# Altium footprint library DCI_MB1137.PcbLib: 47 footprints (part 3 of 3)
Each footprint in its own frame and in the unit in brackets; x right, y up, seen from the top. Pads: shape width x height; smd on the part's side, far side on the other; paste and mask are expansions set on the pad; w line width, h text height; cw(c..) or ccw(c..) is an arc to the next point about the centre after c.
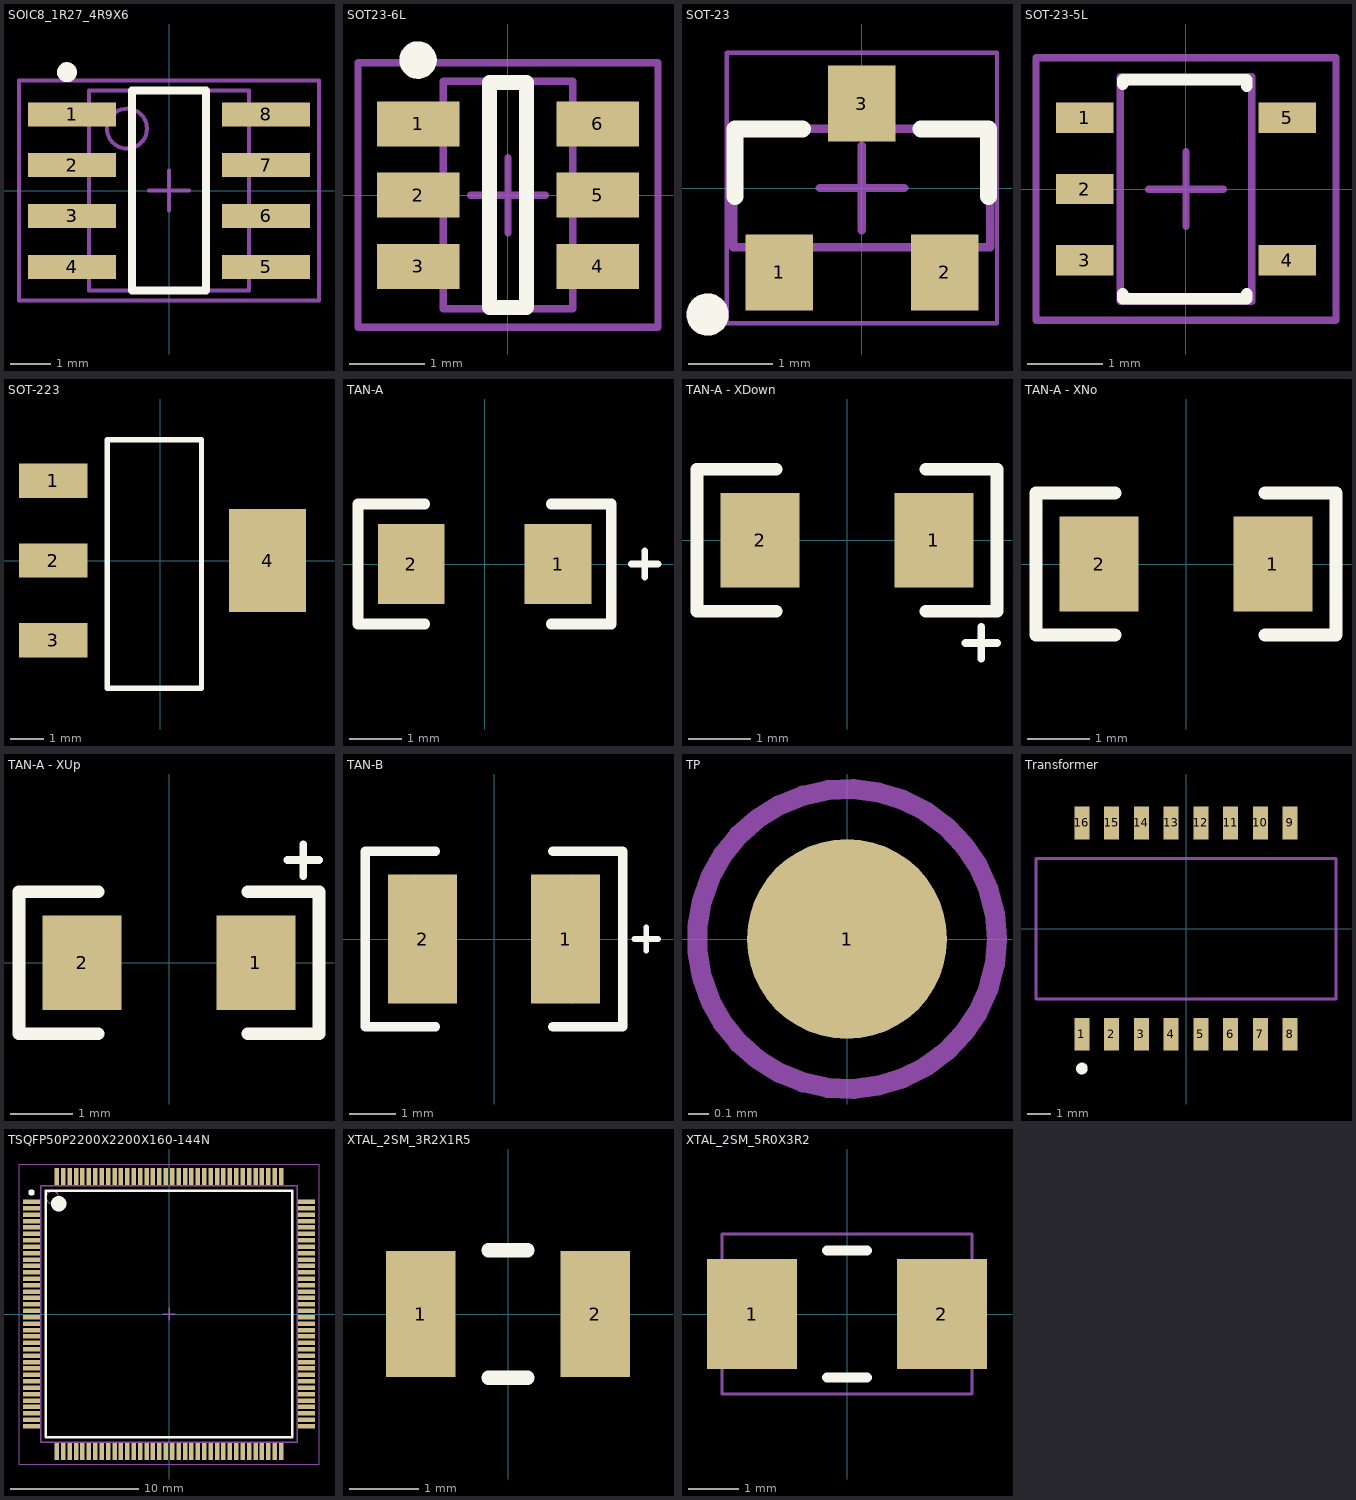
[diagram p2: the footprints below, top view; thin cyan lines are the x and y axes]

## SOIC8_1R27_4R9X6 [mm] "1.2 A current limited high-side power switch with thermal shutdown"
height 1.75
pads (8):
  rect 2.2x0.6 smd: 1(-2.425,1.905) 2(-2.425,0.635) 3(-2.425,-0.635) 4(-2.425,-1.905) 5(2.425,-1.905) 6(2.425,-0.635) 7(2.425,0.635) 8(2.425,1.905)
Top Overlay:
  circle w0.25: c-2.55,2.96 r0.125
  lines w0.2: -0.925,-2.5 -0.925,2.5 0.925,2.5 0.925,-2.5 -0.925,-2.5
Mechanical 13:
  circle w0.1: c-1.05,1.55 r0.5
  lines w0.1: -2,-2.5 -2,2.5 2,2.5 2,-2.5 -2,-2.5
Mechanical 15:
  lines w0.1: -0.5,0 0.5,0 ; 0,-0.5 0,0.5 ; -3.75,-2.75 -3.75,2.75 3.75,2.75 3.75,-2.75 -3.75,-2.75
3D body: height 1.45, standoff 0.1, extent -2,-2.5 2,2.5

## SOT23-6L [mm]
height 1.25
pads (6):
  rect 1.1x0.6 smd: 1(-1.2,0.95) 2(-1.2,0) 3(-1.2,-0.95) 4(1.2,-0.95) 5(1.2,0) 6(1.2,0.95)
Top Overlay:
  circle w0.25: c-1.2,1.8 r0.125
  lines w0.2: -0.25,-1.5 0.25,-1.5 0.25,1.5 -0.25,1.5 -0.25,-1.5
Mechanical 13:
  lines w0.1: -0.865,-1.515 -0.865,1.515 0.865,1.515 0.865,-1.515 -0.865,-1.515
Mechanical 15:
  lines w0.1: -0.5,0 0.5,0 ; 0,-0.5 0,0.5 ; -2,-1.763 -2,1.763 2,1.763 2,-1.763 -2,-1.763
3D body: height 1.25, standoff 0.05, extent -0.865,-1.515 0.865,1.515

## SOT-23 [mm]
height 1.1
pads (3):
  rect 0.8x0.9 smd: 1(-0.98,-1) 2(0.98,-1) 3(0,1)
Top Overlay:
  circle w0.25: c-1.827,-1.499 r0.125
  lines w0.2: -1.5,-0.1 -1.5,0.7 -0.7,0.7 ; 0.7,0.7 1.5,0.7 1.5,-0.1
Mechanical 13:
  lines w0.1: -1.52,-0.7 1.52,-0.7 1.52,0.7 -1.52,0.7 -1.52,-0.7
Mechanical 15:
  lines w0.05: -1.6,-1.6 1.6,-1.6 1.6,1.6 -1.6,1.6 -1.6,-1.6
  lines w0.1: -0.5,0 0.5,0 ; 0,-0.5 0,0.5
3D body: height 1.11, standoff 0.01, extent -1.52,-0.7 1.52,0.7

## SOT-23-5L [mil] "Enhanced single channel power switches"
height 57.09
pads (5):
  rect 30x16 smd: 1(-53.15,37.4) 2(-53.15,0) 3(-53.15,-37.4) 4(53.15,-37.4) 5(53.15,37.4)
Top Overlay:
  lines w6: -33.15,-55 -33.15,-57.6 31.85,-57.6 31.85,-55 ; -33.15,55 -33.15,57.4 31.85,57.4 31.85,54
Mechanical 13:
  lines w3.94: -34.45,-59.06 34.45,-59.06 34.45,59.06 -34.45,59.06 -34.45,-59.06
Mechanical 15:
  lines w3.94: -19.68,0 19.69,0 ; 0,-19.68 0,19.69 ; -78.74,-68.9 78.74,-68.9 78.74,68.9 -78.74,68.9 -78.74,-68.9
3D body: height 57.09, standoff 1.97, extent -34.45,-59.06 34.45,59.06

## SOT-223 [mil] "Adjustable and fixed low drop positive voltage regulator"
height 70.87
pads (4):
  rect 80x40 smd: 1(-125,93) 2(-125,0) 3(-125,-93)
  rect 90x120 smd: 4(125,0)
Top Overlay:
  lines w6: -62,-149 -62,141 48,141 48,-149 -62,-149
3D body: height 70.87, standoff 7.87, extent -83.66,-131.89 62.01,131.89

## TAN-A [mil] "TAN Capacitor"
height 39.37
pads (2):
  rect 50x60 smd: 1(55,0) 2(-55,0)
Top Overlay:
  lines w5: 110,0 130,0 ; 120,-10 120,10
  lines w8: -45,-45 -95,-45 -95,45 -45,45 ; 50,-45 95,-45 95,45 50,45
3D body: height 39.37, standoff 0, extent -47.24,-35.43 47.24,35.43

## TAN-A - XDown [mil] "TAN Capacitor"
height 39.37
pads (2):
  rect 50x60 smd: 1(55,0) 2(-55,0)
Top Overlay:
  lines w5: 75,-65 95,-65 ; 85,-75 85,-55
  lines w8: -45,-45 -95,-45 -95,45 -45,45 ; 50,-45 95,-45 95,45 50,45
3D body: height 39.37, standoff 0, extent -47.24,-35.43 47.24,35.43

## TAN-A - XNo [mil] "TAN Capacitor"
height 39.37
pads (2):
  rect 50x60 smd: 1(55,0) 2(-55,0)
Top Overlay:
  lines w8: -45,-45 -95,-45 -95,45 -45,45 ; 50,-45 95,-45 95,45 50,45
3D body: height 39.37, standoff 0, extent -47.24,-35.43 47.24,35.43

## TAN-A - XUp [mil] "TAN Capacitor"
height 39.37
pads (2):
  rect 50x60 smd: 1(55,0) 2(-55,0)
Top Overlay:
  lines w5: 75,65 95,65 ; 85,55 85,75
  lines w8: -45,-45 -95,-45 -95,45 -45,45 ; 50,-45 95,-45 95,45 50,45
3D body: height 39.37, standoff 0, extent -47.24,-35.43 47.24,35.43

## TAN-B [mm] "Tan Capacitor"
height 1
pads (2):
  rect 1.5x2.8 smd: 1(1.55,0) 2(-1.55,0)
Top Overlay:
  lines w0.127: 3.048,0 3.556,0 ; 3.302,-0.254 3.302,0.254
  lines w0.203: -1.27,-1.905 -2.794,-1.905 -2.794,1.905 -1.27,1.905 ; 1.27,-1.905 2.794,-1.905 2.794,1.905 1.27,1.905
Mechanical 13:
  lines w0.1: -1.7,-1.35 -1.7,1.35 ; 1.7,-1.35 1.7,1.35
3D body: height 1, standoff 0, extent -1.763,-1.537 1.704,1.539

## TP [mm] "Testpoint, Surface Mounting, Circular, Pad Diameter 1mm"
height 1
pads (1):
  round 1 smd: 1(0,0)
Mechanical 15:
  circle w0.1: c0,0 r0.75

## Transformer [mm]
height 1
pads (16):
  rect 0.64x1.4 smd: 1(-4.445,-4.51) 2(-3.175,-4.51) 3(-1.905,-4.51) 4(-0.635,-4.51) 5(0.635,-4.51) 6(1.905,-4.51) 7(3.175,-4.51) 8(4.445,-4.51) 9(4.445,4.51) 10(3.175,4.51) 11(1.905,4.51) 12(0.635,4.51) 13(-0.635,4.51) 14(-1.905,4.51) 15(-3.175,4.51) 16(-4.445,4.51)
Top Overlay:
  circle w0.25: c-4.443,-5.969 r0.125
Mechanical 13:
  lines w0.127: -6.4,-3 6.4,-3 6.4,3 -6.4,3 -6.4,-3
3D body: height 6, standoff 0, extent -6.4,-3 6.4,3

## TSQFP50P2200X2200X160-144N [mm] "TSQFP, 144-Leads, Body 20.00x20.00mm, Pitch 0.50mm, IPC Medium Density"
height 1.6
pads (144):
  rect 1.35x0.35 smd: 1(-10.725,8.75) 2(-10.725,8.25) 3(-10.725,7.75) 4(-10.725,7.25) 5(-10.725,6.75) 6(-10.725,6.25) 7(-10.725,5.75) 8(-10.725,5.25) 9(-10.725,4.75) 10(-10.725,4.25) 11(-10.725,3.75) 12(-10.725,3.25) 13(-10.725,2.75) 14(-10.725,2.25) 15(-10.725,1.75) 16(-10.725,1.25) 17(-10.725,0.75) 18(-10.725,0.25) 19(-10.725,-0.25) 20(-10.725,-0.75) 21(-10.725,-1.25) 22(-10.725,-1.75) 23(-10.725,-2.25) 24(-10.725,-2.75) 25(-10.725,-3.25) 26(-10.725,-3.75) 27(-10.725,-4.25) 28(-10.725,-4.75) 29(-10.725,-5.25) 30(-10.725,-5.75) 31(-10.725,-6.25) 32(-10.725,-6.75) 33(-10.725,-7.25) 34(-10.725,-7.75) 35(-10.725,-8.25) 36(-10.725,-8.75) 73(10.725,-8.75) 74(10.725,-8.25) 75(10.725,-7.75) 76(10.725,-7.25) 77(10.725,-6.75) 78(10.725,-6.25) 79(10.725,-5.75) 80(10.725,-5.25) 81(10.725,-4.75) 82(10.725,-4.25) 83(10.725,-3.75) 84(10.725,-3.25) 85(10.725,-2.75) 86(10.725,-2.25) 87(10.725,-1.75) 88(10.725,-1.25) 89(10.725,-0.75) 90(10.725,-0.25) 91(10.725,0.25) 92(10.725,0.75) 93(10.725,1.25) 94(10.725,1.75) 95(10.725,2.25) 96(10.725,2.75) 97(10.725,3.25) 98(10.725,3.75) 99(10.725,4.25) 100(10.725,4.75) 101(10.725,5.25) 102(10.725,5.75) 103(10.725,6.25) 104(10.725,6.75) 105(10.725,7.25) 106(10.725,7.75) 107(10.725,8.25) 108(10.725,8.75)
  rect 0.35x1.35 smd: 37(-8.75,-10.725) 38(-8.25,-10.725) 39(-7.75,-10.725) 40(-7.25,-10.725) 41(-6.75,-10.725) 42(-6.25,-10.725) 43(-5.75,-10.725) 44(-5.25,-10.725) 45(-4.75,-10.725) 46(-4.25,-10.725) 47(-3.75,-10.725) 48(-3.25,-10.725) 49(-2.75,-10.725) 50(-2.25,-10.725) 51(-1.75,-10.725) 52(-1.25,-10.725) 53(-0.75,-10.725) 54(-0.25,-10.725) 55(0.25,-10.725) 56(0.75,-10.725) 57(1.25,-10.725) 58(1.75,-10.725) 59(2.25,-10.725) 60(2.75,-10.725) 61(3.25,-10.725) 62(3.75,-10.725) 63(4.25,-10.725) 64(4.75,-10.725) 65(5.25,-10.725) 66(5.75,-10.725) 67(6.25,-10.725) 68(6.75,-10.725) 69(7.25,-10.725) 70(7.75,-10.725) 71(8.25,-10.725) 72(8.75,-10.725) 109(8.75,10.725) 110(8.25,10.725) 111(7.75,10.725) 112(7.25,10.725) 113(6.75,10.725) 114(6.25,10.725) 115(5.75,10.725) 116(5.25,10.725) 117(4.75,10.725) 118(4.25,10.725) 119(3.75,10.725) 120(3.25,10.725) 121(2.75,10.725) 122(2.25,10.725) 123(1.75,10.725) 124(1.25,10.725) 125(0.75,10.725) 126(0.25,10.725) 127(-0.25,10.725) 128(-0.75,10.725) 129(-1.25,10.725) 130(-1.75,10.725) 131(-2.25,10.725) 132(-2.75,10.725) 133(-3.25,10.725) 134(-3.75,10.725) 135(-4.25,10.725) 136(-4.75,10.725) 137(-5.25,10.725) 138(-5.75,10.725) 139(-6.25,10.725) 140(-6.75,10.725) 141(-7.25,10.725) 142(-7.75,10.725) 143(-8.25,10.725) 144(-8.75,10.725)
Top Overlay:
  circle w0.25: c-10.725,9.475 r0.125
  circle w0.6: c-8.6,8.6 r0.3
  lines w0.2: -9.6,-9.6 -9.6,9.6 9.6,9.6 9.6,-9.6 -9.6,-9.6
Mechanical 13:
  circle w0.1: c-9.1,9.1 r0.5
  lines w0.1: -10,-10 -10,10 10,10 10,-10 -10,-10
Mechanical 15:
  lines w0.05: -11.7,-11.7 -11.7,11.7 11.7,11.7 11.7,-11.7 -11.7,-11.7
  lines w0.1: -0.5,0 0.5,0 ; 0,-0.5 0,0.5
3D body "TSQFP50P2200X2200X160-144N.step": height 1.6, standoff 0, extent -11,-11 11,11

## XTAL_2SM_3R2X1R5 [mm] "CRYSTAL 32.768KHZ 6PF SMD 2 pads"
height 1.1
pads (2):
  rect 1x1.8 smd: 1(-1.25,0) 2(1.25,0)
Top Overlay:
  lines w0.203: -0.279,-0.914 0.279,-0.914 ; -0.279,0.914 0.279,0.914
3D body "ABS07-120.STEP": height 0.89, standoff 0, extent -1.628,-0.752 1.577,0.752

## XTAL_2SM_5R0X3R2 [mm] "CRYSTAL 25M Hz  30F SMD 2 pads"
height 1.3
pads (2):
  rect 1.8x2.2 smd: 1(-1.9,0) 2(1.9,0)
Top Overlay:
  lines w0.203: -0.4,-1.27 0.4,-1.27 ; -0.4,1.27 0.4,1.27
Mechanical 13:
  lines w0.051: -2.5,-1.6 2.5,-1.6 2.5,1.6 -2.5,1.6 -2.5,-1.6
3D body: height 1.3, standoff 0, extent -2.5,-1.6 2.5,1.6